# EAGLE library part LED-8XRGB-LINE (library diy-modules-3D)
8 LEDs RGB Line Display based on WS2812B More details about controlling WS2812B RGB LEDs are available here: https://learn.sparkfun.com/tutorials/ws2812-breakout-hookup-guide Click here to find device on ebay.com <http://www.ebay.com/sch/ws2812+8+bit+rainbow>
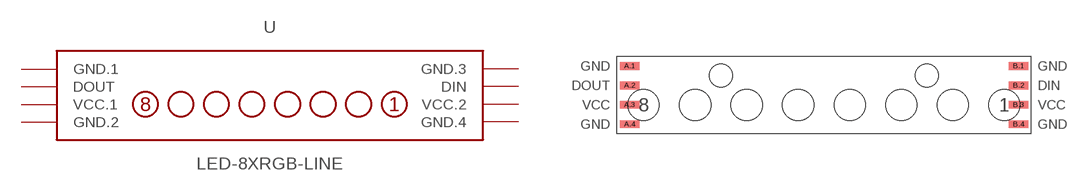
[diagram p10: symbol with the pads of LED-8XRGB-LINE; footprint LED-8XRGB-LINE]

Designator prefix -

## LED-8XRGB-LINE  [LED-8XRGB-LINE]
A.1  GND.1  pwr
A.2  DOUT  out
A.3  VCC.1  pwr
A.4  GND.2  pwr
B.1  GND.3  pwr
B.2  DIN  in
B.3  VCC.2  pwr
B.4  GND.4  pwr

## Footprint LED-8XRGB-LINE (pad centres in mm)
8 LEDs RGB Line Display based on WS2812B
smd 2.54 x 1.016: A.1 -25.4,3.81; A.2 -25.4,1.27; A.3 -25.4,-1.27; A.4 -25.4,-3.81; B.1 25.4,3.81; B.2 25.4,1.27; B.3 25.4,-1.27; B.4 25.4,-3.81
hole 3 at -13.462,2.54
hole 3 at 13.462,2.54